# Altium footprint library MAX3485EESA+.PcbLib: 4 footprints
Each footprint in its own frame and in the unit in brackets; x right, y up, seen from the top. Pads: shape width x height; smd on the part's side, far side on the other; paste and mask are expansions set on the pad; w line width, h text height; cw(c..) or ccw(c..) is an arc to the next point about the centre after c.
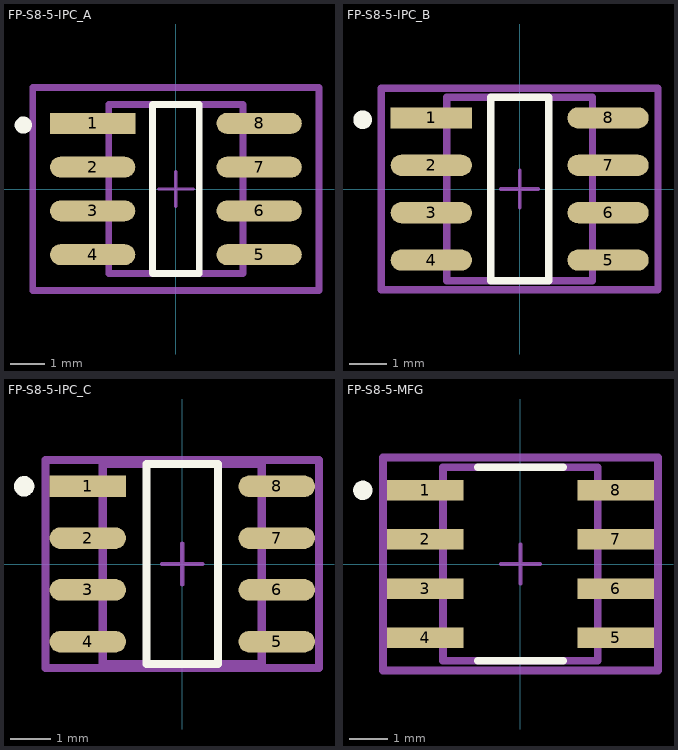
[diagram p0: the footprints below, top view; thin cyan lines are the x and y axes]

## FP-S8-5-IPC_A [mil]
pads (8):
  rect 97.4x23.89 smd paste+0 mask+0: 1(-95.12,75)
  rrect100% 97.4x23.89 smd paste+0 mask+0: 2(-95.12,25) 3(-95.12,-25) 4(-95.12,-75) 5(95.12,-75) 6(95.12,-25) 7(95.12,25) 8(95.12,75)
Top Overlay:
  circle w9.84: c-174.33,73.03 r4.92
  lines w7.87: -26.73,-96.46 26.73,-96.46 26.73,96.46 -26.73,96.46 -26.73,-96.46
Top Assembly:
  lines w7.87: -163.51,-116.14 163.51,-116.14 163.51,116.14 -163.51,116.14 -163.51,-116.14
  text ".Designator" at 0,7.4 h39.37
Top 3D Body:
  lines w7.87: -76.77,-96.46 76.77,-96.46 76.77,96.46 -76.77,96.46 -76.77,-96.46
Top Courtyard:
  lines w7.87: -163.51,-116.14 163.51,-116.14 163.51,116.14 -163.51,116.14 -163.51,-116.14
Top Component Center:
  lines w3.94: -19.68,0 19.68,0 ; 0,-19.68 0,19.68
3D body "IC_Maxim_Integrated_MAX3485EESA+_eec.STEP": height 10, standoff 0, extent -163.51,-116.14 163.51,116.14

## FP-S8-5-IPC_B [mil]
pads (8):
  rect 85.59x22.32 smd paste+0 mask+0: 1(-93.15,75)
  rrect100% 85.59x22.32 smd paste+0 mask+0: 2(-93.15,25) 3(-93.15,-25) 4(-93.15,-75) 5(93.15,-75) 6(93.15,-25) 7(93.15,25) 8(93.15,75)
Top Overlay:
  circle w9.84: c-165.48,73.03 r4.92
  lines w7.87: -30.67,-96.46 30.67,-96.46 30.67,96.46 -30.67,96.46 -30.67,-96.46
Top Assembly:
  lines w7.87: -145.79,-106.3 145.79,-106.3 145.79,106.3 -145.79,106.3 -145.79,-106.3
  text ".Designator" at 0,7.4 h39.37
Top 3D Body:
  lines w7.87: -76.77,-96.46 76.77,-96.46 76.77,96.46 -76.77,96.46 -76.77,-96.46
Top Courtyard:
  lines w7.87: -145.79,-106.3 145.79,-106.3 145.79,106.3 -145.79,106.3 -145.79,-106.3
Top Component Center:
  lines w3.94: -19.68,0 19.68,0 ; 0,-19.68 0,19.68
3D body "IC_Maxim_Integrated_MAX3485EESA+_eec.STEP": height 10, standoff 0, extent -145.79,-106.3 145.79,106.3

## FP-S8-5-IPC_C [mil]
pads (8):
  rect 73.78x20.74 smd paste+0 mask+0: 1(-91.18,75)
  rrect100% 73.78x20.74 smd paste+0 mask+0: 2(-91.18,25) 3(-91.18,-25) 4(-91.18,-75) 5(91.18,-75) 6(91.18,-25) 7(91.18,25) 8(91.18,75)
Top Overlay:
  circle w9.84: c-152.68,75 r4.92
  lines w7.87: -34.61,-96.46 34.61,-96.46 34.61,96.46 -34.61,96.46 -34.61,-96.46
Top Assembly:
  lines w7.87: -132.01,-100.39 132.01,-100.39 132.01,100.39 -132.01,100.39 -132.01,-100.39
  text ".Designator" at 0,7.4 h39.37
Top 3D Body:
  lines w7.87: -76.77,-96.46 76.77,-96.46 76.77,96.46 -76.77,96.46 -76.77,-96.46
Top Courtyard:
  lines w7.87: -132.01,-100.39 132.01,-100.39 132.01,100.39 -132.01,100.39 -132.01,-100.39
Top Component Center:
  lines w3.94: -19.68,0 19.68,0 ; 0,-19.68 0,19.68
3D body "IC_Maxim_Integrated_MAX3485EESA+_eec.STEP": height 10, standoff 0, extent -132.01,-100.39 132.01,100.39

## FP-S8-5-MFG [mm]
pads (8):
  rect 1.98x0.53 smd paste+0 mask+0: 1(-2.465,1.905) 2(-2.465,0.635) 3(-2.465,-0.635) 4(-2.465,-1.905) 5(2.465,-1.905) 6(2.465,-0.635) 7(2.465,0.635) 8(2.465,1.905)
Top Overlay:
  circle w0.25: c-4.075,1.905 r0.125
  lines w0.2: -1.1,-2.5 1.1,-2.5 ; -1.1,2.5 1.1,2.5
Top Assembly:
  lines w0.2: -3.555,-2.75 3.555,-2.75 3.555,2.75 -3.555,2.75 -3.555,-2.75
  text ".Designator" at 0,0.188 h1
Top 3D Body:
  lines w0.2: -2,-2.5 2,-2.5 2,2.5 -2,2.5 -2,-2.5
Top Courtyard:
  lines w0.2: -3.555,-2.75 3.555,-2.75 3.555,2.75 -3.555,2.75 -3.555,-2.75
Top Component Center:
  lines w0.1: -0.5,0 0.5,0 ; 0,-0.5 0,0.5
3D body "IC_Maxim_Integrated_MAX3485EESA+_eec.STEP": height 0.25, standoff 0, extent -3.555,-2.75 3.555,2.75